# Altium schematic symbol library header_3_plg.SchLib: 1 symbol
Pins are listed as number, name and electrical type; pins without a type are passive.

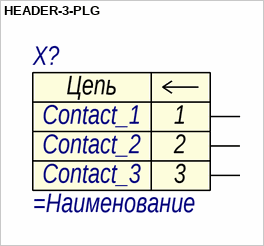
[diagram p0: symbol HEADER-3-PLG]

## HEADER-3-PLG
designator X?
=Описание; Contact_1: Contact_1; Contact_2: Contact_2; Contact_3: Contact_3
pins: 1, 2, 3
text: Цепь